# EAGLE library part ROTARY-ENCODER/SWITCH (library audioint)
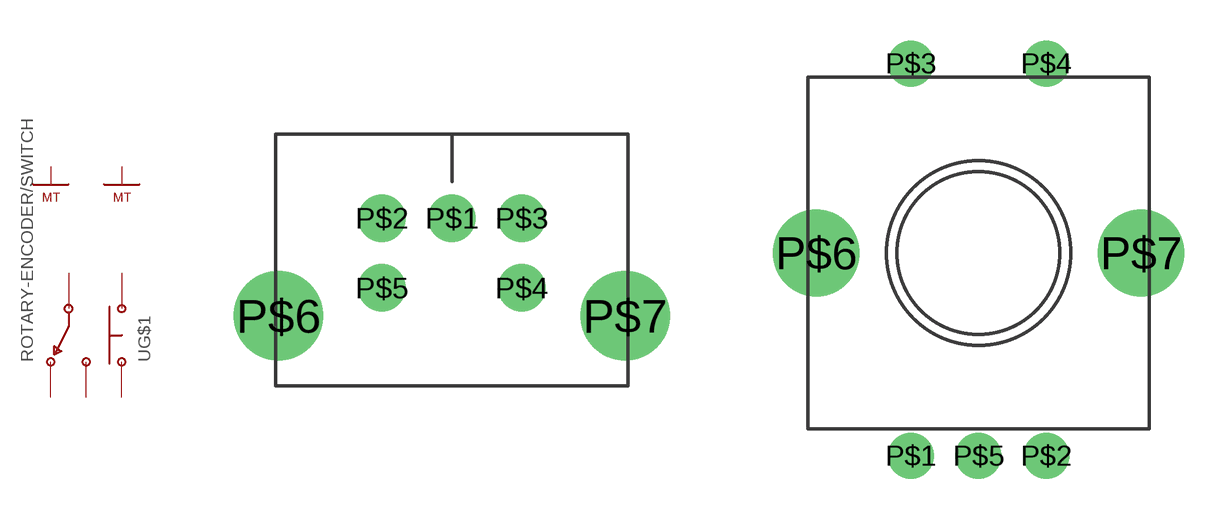
[diagram p9: symbol with the pads of ROTARY-ENCODER; footprints ROTARY-ENCODER, ROTARY-ENCODER/VERT/EN12]

Designator prefix -; gates G$1=ROTARY-ENCODER/SWITCH G$2=MECHANICAL G$3=MECHANICAL

## ROTARY-ENCODER/SWITCHSWITCH  [ROTARY-ENCODER]
P$1  G$1:P$5
P$2  G$1:P$1
P$3  G$1:P$2
P$4  G$1:P$4
P$5  G$1:P$3
P$6  G$2:MT  pas
P$7  G$3:MT  pas

## ROTARY-ENCODER/SWITCH  [ROTARY-ENCODER/VERT/EN12]
P$1  G$1:P$1
P$2  G$1:P$2
P$3  G$1:P$3
P$4  G$1:P$4
P$5  G$1:P$5
P$6  G$2:MT  pas
P$7  G$3:MT  pas

## Footprint ROTARY-ENCODER (pad centres in mm)
drill 1.092 pad 1.7 round: P$1 0,0; P$2 -2.5,0; P$3 2.5,0; P$4 2.5,-2.5; P$5 -2.5,-2.5
drill 2.108 pad 3.2 round: P$6 -6.2,-3.5; P$7 6.2,-3.5

## Footprint ROTARY-ENCODER/VERT/EN12 (pad centres in mm)
drill 1.092 pad 1.7 round: P$1 -2.5,-7.5; P$2 2.5,-7.5; P$3 -2.5,7; P$4 2.5,7; P$5 0,-7.5
drill 2.108 pad 3.2 round: P$6 -6,0; P$7 6,0